# Altium footprint library 200G_TX_LIB.PcbLib: 15 footprints
Each footprint in its own frame and in the unit in brackets; x right, y up, seen from the top. Pads: shape width x height; smd on the part's side, far side on the other; paste and mask are expansions set on the pad; w line width, h text height; cw(c..) or ccw(c..) is an arc to the next point about the centre after c.
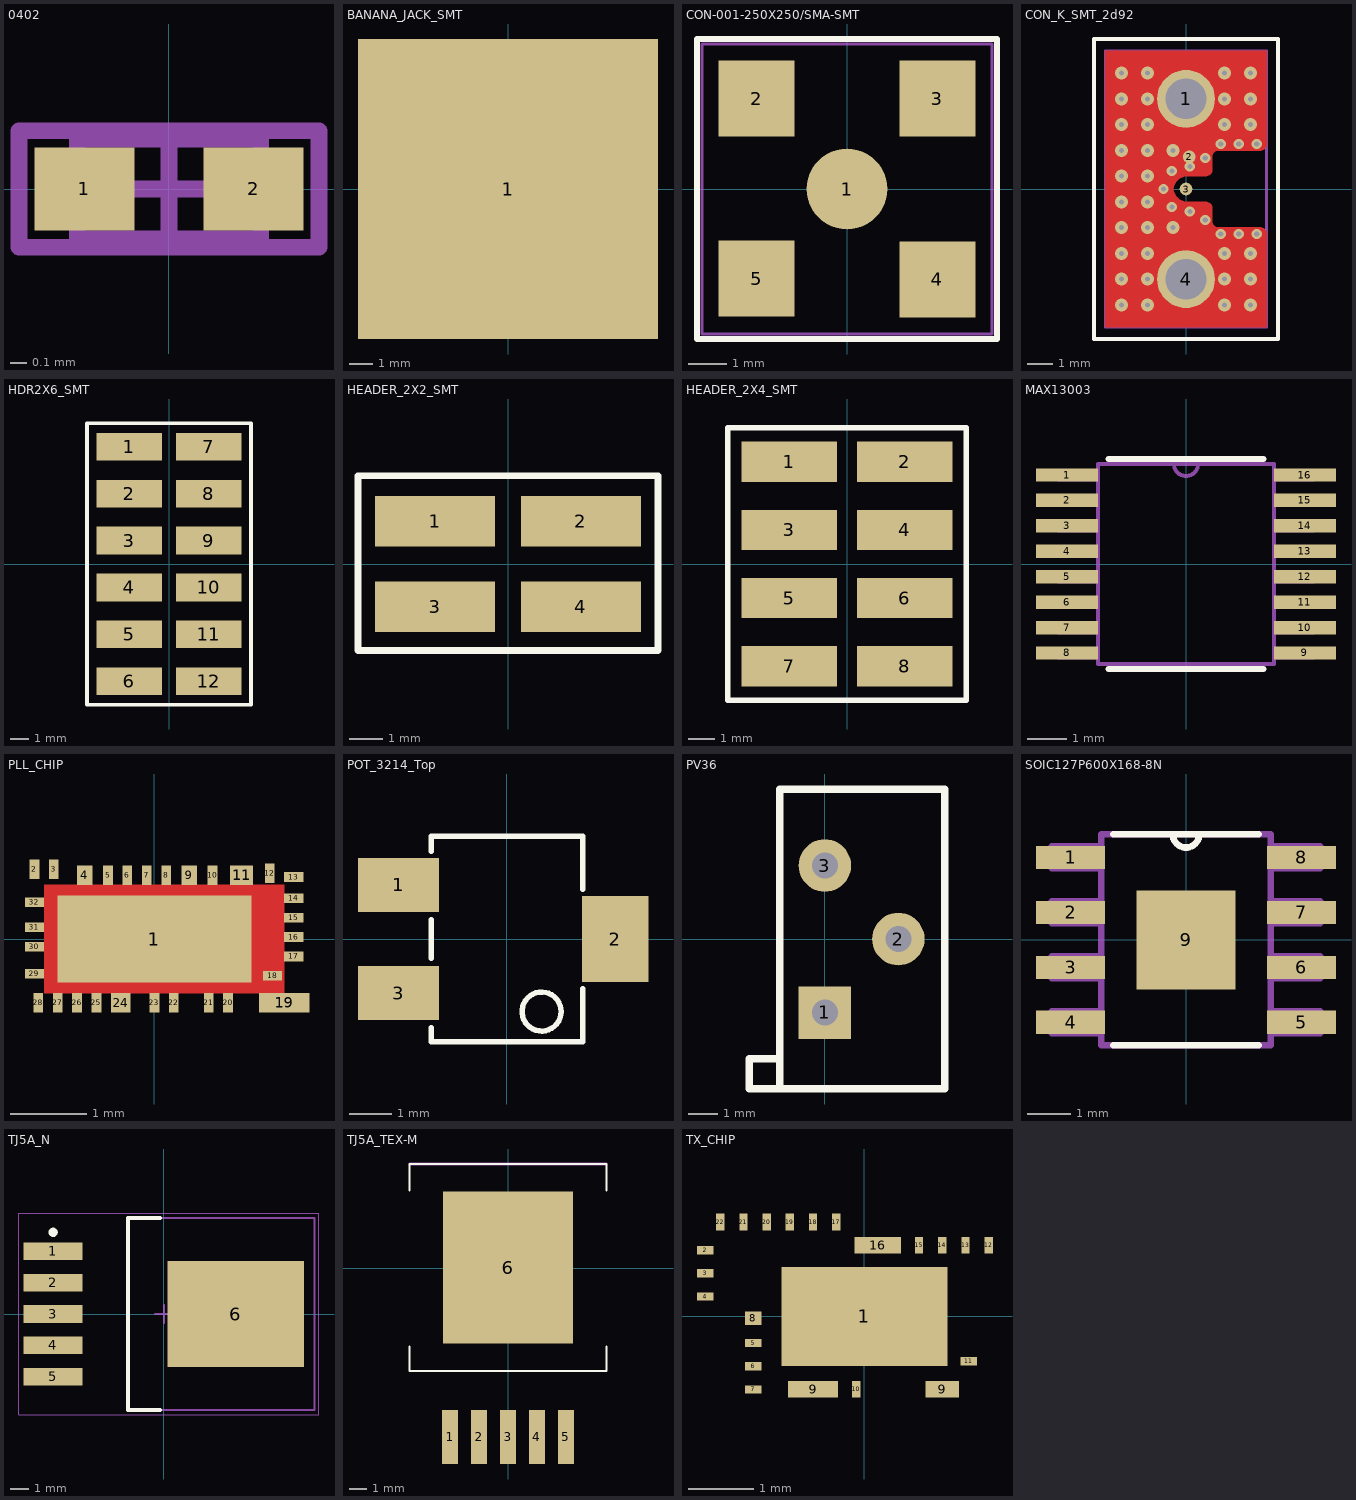
[diagram p0: the footprints below, top view; thin cyan lines are the x and y axes]

## 0402 [mm] "Chip Capacitor, Body 1.0x0.5mm, IPC High Density"
height 1.3
pads (2):
  rect 0.6x0.5 smd: 1(-0.508,0) 2(0.508,0)
Mechanical 13:
  lines w0.1: -0.55,-0.3 0.55,-0.3 0.55,0.3 -0.55,0.3 -0.55,-0.3
Mechanical 15:
  lines w0.1: -0.3,0 0.3,0 ; 0,-0.3 0,0.3 ; -0.9,-0.35 0.9,-0.35 0.9,0.35 -0.9,0.35 -0.9,-0.35
3D body: height 1.3, standoff 0, extent -0.55,-0.3 0.55,0.3

## BANANA_JACK_SMT [mil]
pads (1):
  rect 500x500 smd: 1(0,0)

## CON-001-250X250/SMA-SMT [mm]
pads (5):
  round 2.127 smd: 1(0,0)
  rect 2x2 smd: 2(-2.375,2.375) 3(2.375,2.375) 4(2.375,-2.375) 5(-2.375,-2.35)
Top Overlay:
  lines w0.152: -3.937,-3.937 -3.937,3.937 3.937,3.937 3.937,-3.937 -3.937,-3.937
Mechanical 15:
  lines w0.076: -3.81,-3.81 -3.81,3.81 3.81,3.81 3.81,-3.81 -3.81,-3.81
3D body "Conn_SMA_Molex_732511352.stp": height 9.65, standoff 0.13, extent -3.175,-3.175 3.175,3.175

## CON_K_SMT_2d92 [mil]
pads (4):
  round 90 hole 63: 1(0,140) 4(0,-140)
  round 19.68 smd paste-9.84 mask+9.84: 2(5,50)
  round 20 smd paste-10: 3(0,0)
via 82,-70 diameter 16 hole 8
via 54,-70 diameter 16 hole 8
via 30,48 diameter 16 hole 8
via 6,35 diameter 16 hole 8
via -22,28 diameter 16 hole 8
via -35,0 diameter 16 hole 8
via 82,70 diameter 16 hole 8
via 54,70 diameter 16 hole 8
via 30,-48 diameter 16 hole 8
via 6,-35 diameter 16 hole 8
via -22,-28 diameter 16 hole 8
via 110,70 diameter 16 hole 8
via -60,-180 diameter 20 hole 8
via -100,-140 diameter 20 hole 8
via -100,180 diameter 20 hole 8
via 100,180 diameter 20 hole 8
via 100,-180 diameter 20 hole 8
via -100,-180 diameter 20 hole 8
via -100,-100 diameter 20 hole 8
via 60,-180 diameter 20 hole 8
via 100,-140 diameter 20 hole 8
via 60,-140 diameter 20 hole 8
via -60,-140 diameter 20 hole 8
via 60,180 diameter 20 hole 8
via -60,180 diameter 20 hole 8
via 100,140 diameter 20 hole 8
via 60,140 diameter 20 hole 8
via -60,140 diameter 20 hole 8
via -100,140 diameter 20 hole 8
via -20,-60 diameter 20 hole 8
via -20,60 diameter 20 hole 8
via -60,20 diameter 20 hole 8
via -60,-20 diameter 20 hole 8
via -60,60 diameter 20 hole 8
via -60,-60 diameter 20 hole 8
via -100,-60 diameter 20 hole 8
via -100,60 diameter 20 hole 8
via -100,-20 diameter 20 hole 8
via -100,20 diameter 20 hole 8
via 100,-100 diameter 20 hole 8
via 60,-100 diameter 20 hole 8
via -60,-100 diameter 20 hole 8
via -60,100 diameter 20 hole 8
via -100,100 diameter 20 hole 8
via 60,100 diameter 20 hole 8
via 100,100 diameter 20 hole 8
via 110,-70 diameter 16 hole 8
Top Layer:
  rectangle: -125.52,-215 125.52,-195
  rectangle: -125.52,195 125.52,215
  region: -125.52,-205 -125.52,-205.21 -125.21,-205.51 -124.79,-205.51 -124.48,-205.21 -124.48,-205 -124.48,-0.52 -20.51,-0.51 -20.41,-4.53 -17.2,-11.88 -11.45,-17.49 -4.01,-20.52 0,-20.52 0.1,-20.52 0.29,-20.44 0.44,-20.29 0.52,-20.1 0.52,-20 0.52,-19.9 0.44,-19.71 0.29,-19.56 0.1,-19.48 0,-19.48 -3.8,-19.11 -10.83,-16.2 -16.2,-10.83 -19.11,-3.8 -19.48,0 -19.11,3.8 -16.2,10.83 -10.83,16.2 -3.8,19.11 0,19.48 30,19.48 32.09,19.48 35.96,21.09 38.91,24.04 40.52,27.91 40.52,30 40.52,50 40.7,51.85 42.11,55.27 44.73,57.89 48.15,59.3 50,59.48 115,59.48 117.09,59.48 120.96,61.09 123.91,64.04 125.52,67.91 125.52,70 125.52,205 125.52,205.1 125.44,205.29 125.29,205.44 125.1,205.51 125,205.51 -125,205.51 -125.1,205.51 -125.29,205.44 -125.44,205.29 -125.52,205.1 -125.52,205
  region: -125,-205.51 -125.1,-205.51 -125.29,-205.44 -125.44,-205.29 -125.52,-205.1 -125.52,-205 -125.52,205 -125.52,205.21 -125.21,205.51 -124.79,205.51 -124.48,205.21 -124.48,205 -124.48,0.52 -20.51,0.51 -20.41,4.53 -17.2,11.88 -11.45,17.49 -4.01,20.52 0,20.52 0.1,20.52 0.29,20.44 0.44,20.29 0.52,20.1 0.52,20 0.51,19.9 0.44,19.71 0.29,19.56 0.1,19.48 0,19.48 -3.8,19.11 -10.83,16.2 -16.2,10.83 -19.11,3.8 -19.48,0 -19.11,-3.8 -16.2,-10.83 -10.83,-16.2 -3.8,-19.11 0,-19.48 30,-19.48 32.09,-19.48 35.96,-21.09 38.91,-24.04 40.52,-27.91 40.52,-30 40.52,-30.04 40.5,-30.11 40.48,-30.19 40.45,-30.26 40.43,-30.29 40.45,-30.32 40.48,-30.39 40.5,-30.46 40.52,-30.54 40.52,-30.58 40.52,-50 40.7,-51.85 42.11,-55.27 44.73,-57.89 48.15,-59.3 50,-59.48 115,-59.48 117.09,-59.48 120.96,-61.09 123.91,-64.04 125.52,-67.91 125.52,-70 125.52,-205 125.52,-205.1 125.44,-205.29 125.29,-205.44 125.1,-205.51 125,-205.51
Top Overlay:
  lines w6: -143,-233 -143,233 143,233 143,-233 -143,-233
Top Solder:
  rectangle: -130,-220 130,220
Mechanical 16:
  lines w4: -125,-215 -125,215 125,215 125,-215 -125,-215

## HDR2X6_SMT [mil]
pads (12):
  rect 140x59.06 smd: 1(-85,250) 2(-85,150) 3(-85,50) 4(-85,-50) 5(-85,-150) 6(-85,-250) 7(85,250) 8(85,150) 9(85,50) 10(85,-50) 11(85,-150) 12(85,-250)
Top Overlay:
  lines w7.87: -175,-300 -175,300 175,300 175,-300 -175,-300

## HEADER_2X2_SMT [mil]
pads (4):
  rect 140x59.06 smd: 1(-85,50) 2(85,50) 3(-85,-50) 4(85,-50)
Top Overlay:
  lines w7.87: -175,-101 -175,103 175,103 175,-101 -175,-101

## HEADER_2X4_SMT [mil]
pads (8):
  rect 140x59.06 smd: 1(-85,150) 2(85,150) 3(-85,50) 4(85,50) 5(-85,-50) 6(85,-50) 7(-85,-150) 8(85,-150)
Top Overlay:
  lines w7.87: -175,-200 -175,200 175,200 175,-200 -175,-200

## MAX13003 [mil]
pads (16):
  rect 62.5x13.5 smd paste+0 mask+2: 1(-119.75,89.57) 2(-119.75,63.98) 3(-119.75,38.39) 4(-119.75,12.8) 5(-119.75,-12.8) 6(-119.75,-38.39) 7(-119.75,-63.98) 8(-119.75,-89.57) 9(119.75,-89.57) 10(119.75,-63.98) 11(119.75,-38.39) 12(119.75,-12.8) 13(119.75,12.8) 14(119.75,38.39) 15(119.75,63.98) 16(119.75,89.57)
Top Overlay:
  lines w6: -78.08,-105.5 78.08,-105.5 ; -78.08,105.5 78.08,105.5
Mechanical 13:
  lines w1: -129,-95.57 -129,-83.57 -88.5,-83.57 -88.5,-95.57 -129,-95.57 ; -129,-69.98 -129,-57.98 -88.5,-57.98 -88.5,-69.98 -129,-69.98 ; -129,-44.39 -129,-32.39 -88.5,-32.39 -88.5,-44.39 -129,-44.39 ; -129,-18.8 -129,-6.8 -88.5,-6.8 -88.5,-18.8 -129,-18.8 ; -129,6.8 -129,18.8 -88.5,18.8 -88.5,6.8 -129,6.8 ; -129,32.39 -129,44.39 -88.5,44.39 -88.5,32.39 -129,32.39 ; -129,57.98 -129,69.98 -88.5,69.98 -88.5,57.98 -129,57.98 ; -129,83.57 -129,95.57 -88.5,95.57 -88.5,83.57 -129,83.57 ; 88.5,-95.57 88.5,-83.57 129,-83.57 129,-95.57 88.5,-95.57 ; 88.5,-69.98 88.5,-57.98 129,-57.98 129,-69.98 88.5,-69.98 ; 88.5,-44.39 88.5,-32.39 129,-32.39 129,-44.39 88.5,-44.39 ; 88.5,-18.8 88.5,-6.8 129,-6.8 129,-18.8 88.5,-18.8 ; 88.5,6.8 88.5,18.8 129,18.8 129,6.8 88.5,6.8 ; 88.5,32.39 88.5,44.39 129,44.39 129,32.39 88.5,32.39 ; 88.5,57.98 88.5,69.98 129,69.98 129,57.98 88.5,57.98 ; 88.5,83.57 88.5,95.57 129,95.57 129,83.57 88.5,83.57
  lines w4: -12,100.5 ccw(c0,100.5) 12,100.5 ; -88.5,-100.5 88.5,-100.5 88.5,100.5 -88.5,100.5 -88.5,-100.5

## PLL_CHIP [mil]
pads (32):
  rect 100x45 smd paste-100 mask+2: 1(0,0)
  rect 5x10 smd paste-100 mask+2: 2(-62,36) 3(-52,36) 5(-24,33) 6(-14,33) 7(-4,33) 8(6,33) 10(30,33) 12(59.5,34) 20(38,-33) 21(28,-33) 22(10,-33) 23(0,-33) 25(-30,-33) 26(-40,-33) 27(-50,-33) 28(-60,-33)
  rect 8x10 smd paste-100 mask+2: 4(-36,33) 9(18,33)
  rect 12x10 smd paste-100 mask+2: 11(45,33)
  rect 10x5 smd paste-100 mask+2: 13(72,32) 14(72,21) 15(72,11) 16(72,1) 17(72,-9) 18(61,-19) 29(-62,-18) 30(-62,-4) 31(-62,6) 32(-62,19)
  rect 26x10 smd paste-100 mask+2: 19(67,-33)
  rect 10x10 smd paste-100 mask+2: 24(-17.5,-33)
Top Layer:
  pour cut-out: -57,28 -57,-28 67,-28 67,28
Top Overlay:
  lines w2: -40,-12.5 40,-12.5 40,12.5 -40,12.5 -40,-12.5
Top Solder:
  rectangle: -70,-40 85,43

## POT_3214_Top [mil] "5 turn Trimpot, 3214, Top adjust"
height 200
pads (3):
  rect 75x50 smd: 1(-100,50) 3(-100,-50)
  rect 61x79 smd: 2(100,0)
Top Overlay:
  circle w5: c32,-67 r18.03
  lines w5: -70,-82 -70,-95 70,-95 70,-46 ; -70,-18 -70,18 ; -70,81 -70,95 70,95 70,46
3D body: height 200, standoff 0, extent -70,-95 70,95

## PV36 [mil]
pads (3):
  rect 70x70 hole 35: 1(0,-98)
  round 70 hole 35: 2(98,0) 3(0,98)
Top Overlay:
  lines w10: -101.04,-162.96 -101,-163 ; -101.04,-160 -61.04,-160 ; -101,-160 -101,-200 -61,-200 ; -60,-200 -60,200 160,200 160,-200 -60,-200

## SOIC127P600X168-8N [mil]
pads (9):
  rect 63x21 smd: 1(-105,75) 2(-105,25) 3(-105,-25) 4(-105,-75) 5(105,-75) 6(105,-25) 7(105,25) 8(105,75)
  rect 90x90 smd: 9(0,0)
Top Overlay:
  lines w6: -66,-96 66,-96 ; -66,96 -12,96 ; 66,96 12,96 ; -12,96 ccw(c0,96) 12,96 ; -12,96 12,96
Mechanical 13:
  lines w0: -12,96 ccw(c0,96) 12,96
  lines w6: -122,-85 -122,-65 -77,-65 -77,-85 -122,-85 ; -122,-35 -122,-15 -77,-15 -77,-35 -122,-35 ; -122,15 -122,35 -77,35 -77,15 -122,15 ; -122,65 -122,85 -77,85 -77,65 -122,65 ; -77,-96 77,-96 77,96 12,96 -12,96 -77,96 -77,-96 ; 77,-85 77,-65 122,-65 122,-85 77,-85 ; 77,-35 77,-15 122,-15 122,-35 77,-35 ; 77,15 77,35 122,35 122,15 77,15 ; 77,65 77,85 122,85 122,65 77,65

## TJ5A_N [mm] "D2-PAK, 6-Leads, Body 9.9x10.2mm, Pitch 1.7mm, Lead Span 14mm, IPC Medium Density"
height 2.1
pads (6):
  rect 3.2x0.95 smd: 1(-6,3.4) 2(-6,1.7) 3(-6,0) 4(-6,-1.7) 5(-6,-3.4)
  rect 7.4x5.75 smd: 6(3.9,0)
Top Overlay:
  circle w0.25: c-6,4.425 r0.125
  lines w0.2: -0.2,-5.2 -1.95,-5.2 -1.95,5.2 -0.2,5.2
Mechanical 13:
  lines w0.1: -1.95,-5.2 -1.95,5.2 8.15,5.2 8.15,-5.2 -1.95,-5.2
Mechanical 15:
  lines w0.05: -7.85,-5.45 -7.85,5.45 8.4,5.45 8.4,-5.45 -7.85,-5.45
  lines w0.1: -0.5,0 0.5,0 ; 0,-0.5 0,0.5
3D body: height 2.1, standoff 0, extent -1.95,-5.2 8.15,5.2

## TJ5A_TEX-M [mil]
pads (6):
  rect 37x125 smd paste+0 mask+0: 1(-133.86,-389) 2(-66.93,-389) 3(0,-389) 4(66.93,-389) 5(133.86,-389)
  rect 300x350 smd paste+0 mask+0: 6(0,2)
Top Overlay:
  lines w5: -227,-180 -227,-237 227,-237 227,-180 ; -227,180 -227,241 227,241 227,180
Mechanical 15:
  lines w6: -227,241 227,241
3D body: height 10, standoff 0, extent 0,0 10,10

## TX_CHIP [mil]
pads (23):
  rect 100x60 smd paste-100 mask+2: 1(0,0)
  rect 10x5 smd paste-100 mask+2: 2(-96,40) 3(-96,26) 4(-96,12) 5(-67,-16) 6(-67,-30) 7(-67,-44) 11(63,-27)
  rect 10x8 smd paste-100 mask+2: 8(-67,-1)
  rect 30x10 smd paste-100 mask+2: 9(-31,-44)
  rect 20x10 smd paste-100 mask+2: 9(47,-44)
  rect 5x10 smd paste-100 mask+2: 10(-5,-44) 12(75,43) 13(61,43) 14(47,43) 15(33,43) 17(-17,57) 18(-31,57) 19(-45,57) 20(-59,57) 21(-73,57) 22(-87,57)
  rect 28x10 smd paste-100 mask+2: 16(8,43)
Top Overlay:
  lines w2: -40,-20 40,-20 40,20 -40,20 -40,-20